# Altium footprint library Resistors_GP.PcbLib: 194 footprints (part 13 of 13)
Each footprint in its own frame and in the unit in brackets; x right, y up, seen from the top. Pads: shape width x height; smd on the part's side, far side on the other; paste and mask are expansions set on the pad; w line width, h text height; cw(c..) or ccw(c..) is an arc to the next point about the centre after c.
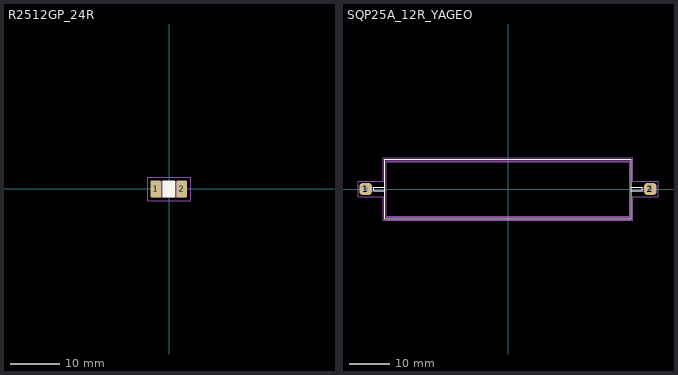
[diagram p12: the footprints below, top view; thin cyan lines are the x and y axes]

## R2512GP_24R [mm] "Resistor 2512"
height 0.55
pads (2):
  rrect20% 2.1x3.4 smd paste-3 mask+0.05: 1(-2.7,0) 2(2.6,0)
Top Overlay:
  rectangle: -1.35,-1.7 1.25,1.7
Top Paste:
  rectangle: 1.8,0.65 2.5,1.35
  region: 3.45,1.35 2.75,1.35 2.75,0.65 3.45,0.65
  rectangle: 1.8,-0.35 2.5,0.35
  region: 3.45,0.35 2.75,0.35 2.75,-0.35 3.45,-0.35
  rectangle: 1.8,-1.3 2.5,-0.6
  region: 3.45,-0.6 2.75,-0.6 2.75,-1.3 3.45,-1.3
  rectangle: -3.5,0.65 -2.8,1.35
  region: -1.85,1.35 -2.55,1.35 -2.55,0.65 -1.85,0.65
  rectangle: -3.5,-0.35 -2.8,0.35
  region: -1.85,0.35 -2.55,0.35 -2.55,-0.35 -1.85,-0.35
  rectangle: -3.5,-1.3 -2.8,-0.6
  region: -1.85,-0.6 -2.55,-0.6 -2.55,-1.3 -1.85,-1.3
Top Courtyard:
  lines w0.025: -4.3,-2.4 4.3,-2.4 4.3,2.4 -4.3,2.4 -4.3,-2.4
Top Assembly:
  lines w0.05: -2.414,-1.585 2.414,-1.585 ; -2.414,1.585 2.414,1.585 ; -2.384,-1.435 2.399,-1.435 ; -2.384,1.435 2.399,1.435 ; -2.35,-1.435 -2.35,-0.835 ; -2.35,0.835 -2.35,1.435 ; -2.3,-1.435 -2.3,1.435 ; -2.25,-1.435 -2.25,1.435 ; -2.2,-1.435 -2.2,1.435 ; -2.15,-1.435 -2.15,1.435 ; -2.1,-1.435 -2.1,1.435 ; -2.05,-1.435 -2.05,1.435 ; -2,-1.435 -2,1.435 ; -1.95,-1.435 -1.95,1.435 ; -1.9,-1.435 -1.9,1.435 ; -1.85,-1.435 -1.85,1.435 ; -1.8,-1.435 -1.8,1.435 ; -1.75,-1.435 -1.75,1.435 ; -1.7,-1.435 -1.7,1.435 ; -1.65,-1.435 -1.65,1.435 ; -1.6,-1.435 -1.6,1.435 ; -1.55,-1.435 -1.55,1.435 ; -1.5,-1.435 -1.5,1.435 ; -1.45,-1.435 -1.45,1.435 ; -1.4,-1.435 -1.4,1.435 ; -1.35,-1.435 -1.35,1.435 ; -1.3,-1.435 -1.3,1.435 ; -1.25,-1.435 -1.25,1.435 ; -1.2,-1.435 -1.2,1.435 ; -1.15,-1.435 -1.15,1.435 ; -1.1,-1.435 -1.1,1.435 ; -1.05,-1.435 -1.05,1.435 ; -1,-1.435 -1,1.435 ; -0.95,-1.435 -0.95,1.435 ; -0.9,-1.435 -0.9,1.435 ; -0.85,-1.435 -0.85,1.435 ; -0.8,-1.435 -0.8,1.435 ; -0.75,-1.435 -0.75,1.435 ; -0.7,-1.435 -0.7,1.435 ; -0.65,-1.435 -0.65,1.435 ; -0.6,-1.435 -0.6,1.435 ; -0.55,-1.435 -0.55,1.435 ; -0.5,-1.435 -0.5,1.435 ; -0.45,-1.435 -0.45,1.435 ; -0.4,-1.435 -0.4,1.435 ; -0.35,-1.435 -0.35,1.435 ; -0.3,-1.435 -0.3,1.435 ; -0.25,-1.435 -0.25,1.435 ; -0.2,-1.435 -0.2,1.435 ; -0.15,-1.435 -0.15,1.435 ; -0.1,-1.435 -0.1,1.435 ; -0.05,-1.435 -0.05,1.435 ; 0,-1.435 0,1.435 ; 0.05,-1.435 0.05,1.435 ; 0.1,-1.435 0.1,1.435 ; 0.15,-1.435 0.15,1.435 ; 0.2,-1.435 0.2,1.435 ; 0.25,-1.435 0.25,1.435 ; 0.3,-1.435 0.3,1.435 ; 0.35,-1.435 0.35,1.435 ; 0.4,-1.435 0.4,1.435 ; 0.45,-1.435 0.45,1.435 ; 0.5,-1.435 0.5,1.435 ; 0.55,-1.435 0.55,1.435 ; 0.6,-1.435 0.6,1.435 ; 0.65,-1.435 0.65,1.435 ; 0.7,-1.435 0.7,1.435 ; 0.75,-1.435 0.75,1.435 ; 0.8,-1.435 0.8,1.435 ; 0.85,-1.435 0.85,1.435 ; 0.9,-1.435 0.9,1.435 ; 0.95,-1.435 0.95,1.435 ; 1,-1.435 1,1.435 ; 1.05,-1.435 1.05,1.435 ; 1.1,-1.435 1.1,1.435 ; 1.15,-1.435 1.15,1.435 ; 1.2,-1.435 1.2,1.435 ; 1.25,-1.435 1.25,1.435 ; 1.3,-1.435 1.3,1.435 ; 1.35,-1.435 1.35,1.435 ; 1.4,-1.435 1.4,1.435 ; 1.45,-1.435 1.45,1.435 ; 1.5,-1.435 1.5,1.435 ; 1.55,-1.435 1.55,1.435 ; 1.6,-1.435 1.6,1.435 ; 1.65,-1.435 1.65,1.435 ; 1.7,-1.435 1.7,1.435 ; 1.75,-1.435 1.75,1.435 ; 1.8,-1.435 1.8,1.435 ; 1.85,-1.435 1.85,1.435 ; 1.9,-1.435 1.9,1.435 ; 1.95,-1.435 1.95,1.435 ; 2,-1.435 2,1.435 ; 2.05,-1.435 2.05,1.435 ; 2.1,-1.435 2.1,1.435 ; 2.15,-1.435 2.15,1.435 ; 2.2,-1.435 2.2,1.435 ; 2.25,-1.435 2.25,1.435 ; 2.3,-1.435 2.3,1.435 ; 2.35,-1.435 2.35,-0.835 ; 2.35,0.835 2.35,1.435 ; -3.175,-1.59 -2.415,-1.59 ccw(c-16.415,0) -2.415,1.59 -3.175,1.59 -3.175,-1.59 ; 2.415,-1.59 cw(c16.415,0) 2.415,1.59 3.175,1.59 3.175,-1.59 2.415,-1.59
  text ".Designator" at -3.378,2.161 h1.5
3D body "R2512_BLACK_24R.x_t": height 0.55, standoff 0, extent -3.175,-1.55 3.175,1.55

## SQP25A_12R_YAGEO [mm] "Resistor SQP25A"
height 13
pads (2):
  rrect50% 3x3 hole 1.2: 1(-35,0) 2(35,0)
Top Overlay:
  lines w0.2: -30.3,-0.4 -33,-0.4 -33,0.4 -30.3,0.4 ; 30.3,-0.4 33,-0.4 33,0.4 30.3,0.4 ; -30.3,-7.3 -30.3,7.3 30.3,7.3 30.3,-7.3 -30.3,-7.3
Top Courtyard:
  lines w0.025: -36.9,-1.9 -30.7,-1.9 -30.7,-7.7 30.7,-7.7 30.7,-1.9 36.9,-1.9 36.9,1.9 30.7,1.9 30.7,7.7 -30.7,7.7 -30.7,1.9 -36.9,1.9 -36.9,-1.9
Top Assembly:
  lines w0.05: -33,-0.4 -33,0.4 ; -30,-6.75 30,-6.75 ; -30,-0.4 -35,-0.4 cw(c-35,0) -35,0.4 -30,0.4 ; -30,6.75 30,6.75 ; 30,-0.4 35,-0.4 ccw(c35,0) 35,0.4 30,0.4 ; 33,-0.4 33,0.4 ; -30,-7 -30,7 30,7 30,-7 -30,-7
  text ".Designator" at -11.274,-1.132 h5
3D body "SQP25AJB-12R.x_t": height 13, standoff -3, extent -35.397,-7 35.397,7